# Altium schematic symbol library V_2.SchLib: 4 symbols
Pins are listed as number, name and electrical type; pins without a type are passive.

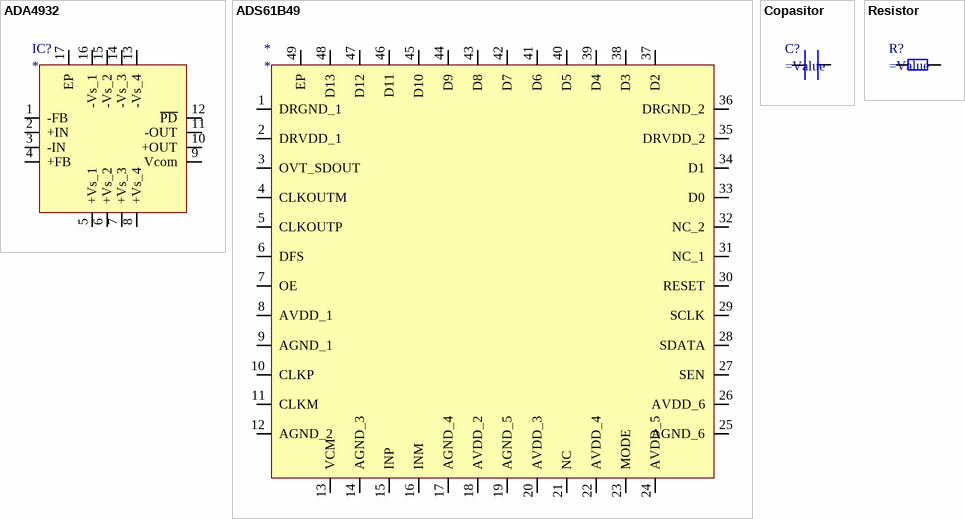
[diagram p0: symbols ADA4932 to Resistor]

## ADA4932
designator IC?
footprint ADA4932
pins: 1 -FB, 2 +IN, 3 -IN, 4 +FB, 5 +Vs_1, 6 +Vs_2, 7 +Vs_3, 8 +Vs_4, 9 Vcom, 10 +OUT, 11 -OUT, 12 ~{PD}, 13 -Vs_4, 14 -Vs_3, 15 -Vs_2, 16 -Vs_1, 17 EP

## ADS61B49
designator *
footprint ADS61B49
pins: 1 DRGND_1, 2 DRVDD_1, 3 OVT_SDOUT, 4 CLKOUTM, 5 CLKOUTP, 6 DFS, 7 OE, 8 AVDD_1, 9 AGND_1, 10 CLKP, 11 CLKM, 12 AGND_2, 13 VCM, 14 AGND_3, 15 INP, 16 INM, 17 AGND_4, 18 AVDD_2, 19 AGND_5, 20 AVDD_3, 21 NC, 22 AVDD_4, 23 MODE, 24 AVDD_5, 25 AGND_6, 26 AVDD_6, 27 SEN, 28 SDATA, 29 SCLK, 30 RESET, 31 NC_1, 32 NC_2, 33 D0, 34 D1, 35 DRVDD_2, 36 DRGND_2, 37 D2, 38 D3, 39 D4, 40 D5, 41 D6, 42 D7, 43 D8, 44 D9, 45 D10, 46 D11, 47 D12, 48 D13, 49 EP

## Copasitor
designator C?
footprint Copasitor
pins: 1, 2

## Resistor
designator R?
footprint Res
pins: 1, 2